# EAGLE library part EPCQ4ASI8N (library ik)
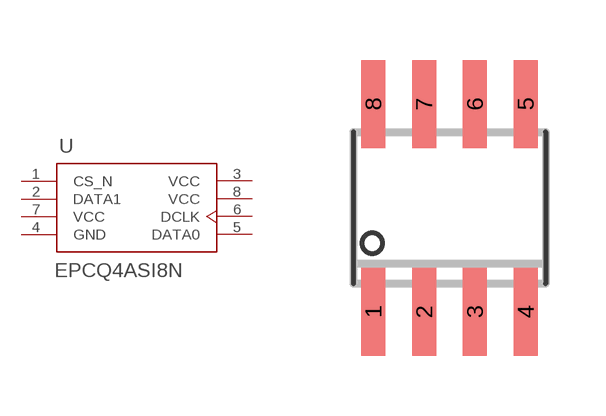
[diagram p7: symbol with the pads of 8SOIC; footprint 8SOIC]

Designator prefix -

## EPCQ4ASI8N (DPN: 544-3442-ND; MPN: EPCQ4ASI8N)  [8SOIC]
1  CS_N  in
2  DATA1  out
3  VCC  pwr
4  GND  pwr
5  DATA0  in
6  DCLK  in
7  VCC  pwr
8  VCC  pwr

## Footprint 8SOIC (pad centres in mm)
smd 0.6 x 2.2: 1 -1.505,-2.6; 2 -0.235,-2.6; 3 1.035,-2.6; 4 2.305,-2.6; 5 2.305,2.6; 6 1.035,2.6; 7 -0.235,2.6; 8 -1.505,2.6